# Altium schematic symbol library CONN PWR JACK.SchLib: 1 symbol
Pins are listed as number, name and electrical type; pins without a type are passive.

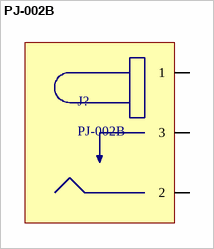
[diagram p0: symbol PJ-002B]

## PJ-002B
designator J?
CONN PWR JACK 2.5X5.5MM; Manufacturer: CUI Inc.; Digikey Part #: CP-002B-ND; Manufacturer Part #: PJ-002B
footprint PJ-002B (CONN PWR JACK 2.5X5.5MM)
pins: 1, 2, 3